# Altium schematic symbol library Cap.SchLib: 155 symbols (part 1 of 2)
Pins are listed as number, name and electrical type; pins without a type are passive.

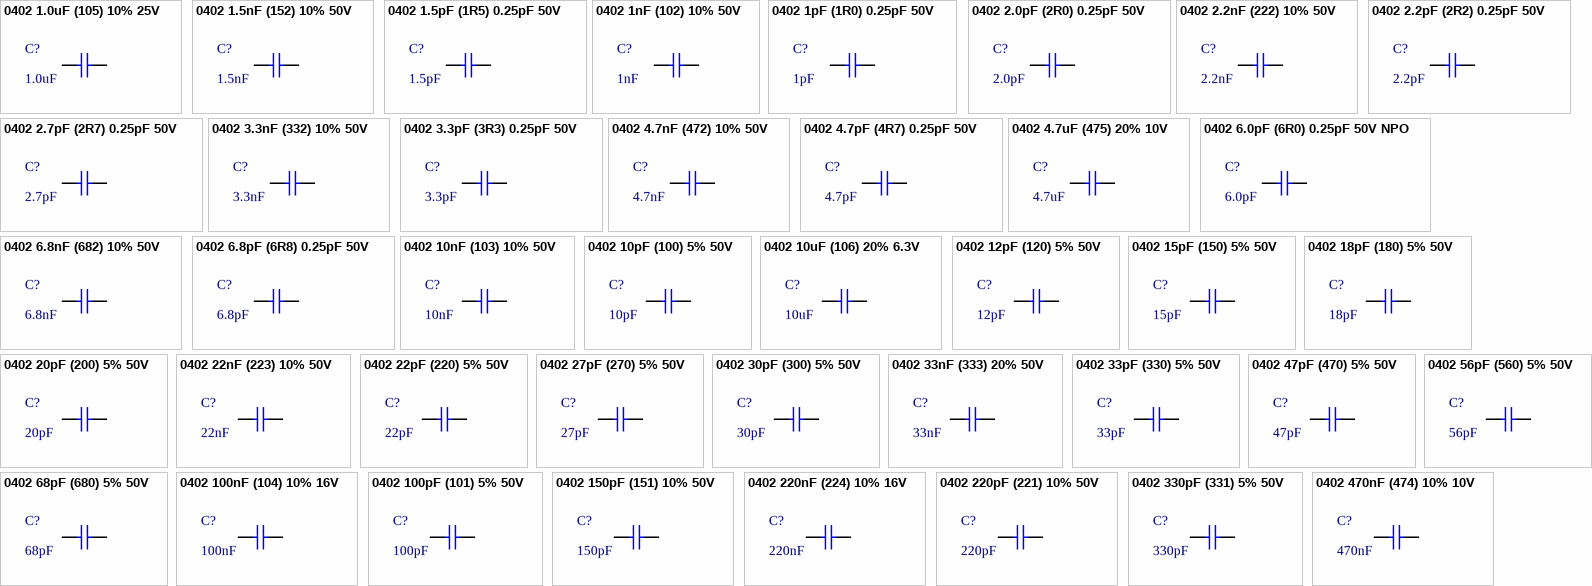
[diagram p0: symbols 0402 1.0uF (105) 10% 25V to 0402 470nF (474) 10% 10V]

## 0402 1.0uF (105) 10% 25V
designator C?, comment 1.0uF
Chip capacitor; Manufacturer: Samsung Electro-Mechanics; PartNumber: CL05A105KA5NQNC; Capacitance: 1uF; Tolerance: 10%; Voltage: 25V; ComponentLink1Description: Supplier link; ComponentLink1URL: http://www.szlcsc.com/product/details_53938.html; Package: 0402; Supplier: LC; SuppliersPartNumber: C52923
footprint 0402_C
pins: 1, 2

## 0402 1.5nF (152) 10% 50V
designator C?, comment 1.5nF
Chip capacitor; Manufacturer: Samsung Electro-Mechanics; PartNumber: CL05B152KB5NNNC; Tolerance: 10%; Voltage: 50V; ComponentLink1Description: Supplier link; ComponentLink1URL: http://www.szlcsc.com/product/details_24707.html; Package: 0402; Supplier: LC; SuppliersPartNumber: C23967; Capacitance: 1.5nF
footprint 0402_C
pins: 1, 2

## 0402 1.5pF (1R5) 0.25pF 50V
designator C?, comment 1.5pF
Chip capacitor; Manufacturer: Guangdong Fenghua Advanced Tech; PartNumber: 0402CG1R5C500NT; Tolerance: 0.25pF; Voltage: 50V; ComponentLink1Description: Supplier link; ComponentLink1URL: http://www.szlcsc.com/product/details_1904.html; Package: 0402; Supplier: LC; SuppliersPartNumber: C1552; Capacitance: 1.5pF
footprint 0402_C
pins: 1, 2

## 0402 1nF (102) 10% 50V
designator C?, comment 1nF
Chip capacitor; Manufacturer: Guangdong Fenghua Advanced Tech; PartNumber: 0402B102K500NT; Tolerance: 10%; Voltage: 50V; ComponentLink1Description: Supplier link; ComponentLink1URL: http://www.szlcsc.com/product/details_1875.html; Package: 0402; Supplier: LC; SuppliersPartNumber: C1523; Capacitance: 1nF
footprint 0402_C
pins: 1, 2

## 0402 1pF (1R0) 0.25pF 50V
designator C?, comment 1pF
Chip capacitor; Manufacturer: Guangdong Fenghua Advanced Tech; PartNumber: 0402CG1R0C500NT; Tolerance: 0.25pF; Voltage: 50V; ComponentLink1Description: Supplier link; ComponentLink1URL: http://www.szlcsc.com/product/details_1902.html; Package: 0402; Supplier: LC; SuppliersPartNumber: C1550; Capacitance: 1pF
footprint 0402_C
pins: 1, 2

## 0402 2.0pF (2R0) 0.25pF 50V
designator C?, comment 2.0pF
Chip capacitor; Manufacturer: Guangdong Fenghua Advanced Tech; PartNumber: 0402CG2R0C500NT; Capacitance: 2pF; Tolerance: 0.25pF; Voltage: 50V; ComponentLink1Description: Supplier link; ComponentLink1URL: http://www.szlcsc.com/product/details_1910.html; Package: 0402; Supplier: LC; SuppliersPartNumber: C1558
footprint 0402_C
pins: 1, 2

## 0402 2.2nF (222) 10% 50V
designator C?, comment 2.2nF
Chip capacitor; Manufacturer: Guangdong Fenghua Advanced Tech; PartNumber: 0402B222K500NT; Tolerance: 10%; Voltage: 50V; ComponentLink1Description: Supplier link; ComponentLink1URL: http://www.szlcsc.com/product/details_1883.html; Package: 0402; Supplier: LC; SuppliersPartNumber: C1531; Capacitance: 2.2nF
footprint 0402_C
pins: 1, 2

## 0402 2.2pF (2R2) 0.25pF 50V
designator C?, comment 2.2pF
Chip capacitor; Manufacturer: Guangdong Fenghua Advanced Tech; PartNumber: 0402CG2R2C500NT; Tolerance: 0.25pF; Voltage: 50V; ComponentLink1Description: Supplier link; ComponentLink1URL: http://www.szlcsc.com/product/details_1911.html; Package: 0402; Supplier: LC; SuppliersPartNumber: C1559; Capacitance: 2.2pF
footprint 0402_C
pins: 1, 2

## 0402 2.7pF (2R7) 0.25pF 50V
designator C?, comment 2.7pF
Chip capacitor; Manufacturer: Guangdong Fenghua Advanced Tech; PartNumber: 0402CG2R7C500NT; Tolerance: 0.25pF; Voltage: 50V; ComponentLink1Description: Supplier link; ComponentLink1URL: http://www.szlcsc.com/product/details_1913.html; Package: 0402; Supplier: LC; SuppliersPartNumber: C1561; Capacitance: 2.7pF
footprint 0402_C
pins: 1, 2

## 0402 3.3nF (332) 10% 50V
designator C?, comment 3.3nF
Chip capacitor; Manufacturer: Samsung Electro-Mechanics; PartNumber: CL05B332KB5NNNC; Tolerance: 10%; Voltage: 50V; ComponentLink1Description: Supplier link; ComponentLink1URL: http://www.szlcsc.com/product/details_27148.html; Package: 0402; Supplier: LC; SuppliersPartNumber: C26404; Capacitance: 3.3nF
footprint 0402_C
pins: 1, 2

## 0402 3.3pF (3R3) 0.25pF 50V
designator C?, comment 3.3pF
Chip capacitor; Manufacturer: Guangdong Fenghua Advanced Tech; PartNumber: 0402CG3R3C500NT; Tolerance: 0.25pF; Voltage: 50V; ComponentLink1Description: Supplier link; ComponentLink1URL: http://www.szlcsc.com/product/details_1917.html; Package: 0402; Supplier: LC; SuppliersPartNumber: C1565; Capacitance: 3.3pF
footprint 0402_C
pins: 1, 2

## 0402 4.7nF (472) 10% 50V
designator C?, comment 4.7nF
Chip capacitor; Manufacturer: Guangdong Fenghua Advanced Tech; PartNumber: 0402B472K500NT; Tolerance: 10%; Voltage: 50V; ComponentLink1Description: Supplier link; ComponentLink1URL: http://www.szlcsc.com/product/details_1890.html; Package: 0402; Supplier: LC; SuppliersPartNumber: C1538; Capacitance: 4.7nF
footprint 0402_C
pins: 1, 2

## 0402 4.7pF (4R7) 0.25pF 50V
designator C?, comment 4.7pF
Chip capacitor; Manufacturer: Guangdong Fenghua Advanced Tech; PartNumber: 0402CG4R7C500NT; Tolerance: 0.25pF; Voltage: 50V; ComponentLink1Description: Supplier link; ComponentLink1URL: http://www.szlcsc.com/product/details_1921.html; Package: 0402; Supplier: LC; SuppliersPartNumber: C1569; Capacitance: 4.7pF
footprint 0402_C
pins: 1, 2

## 0402 4.7uF (475) 20% 10V
designator C?, comment 4.7uF
Chip capacitor; Manufacturer: Samsung Electro-Mechanics; PartNumber: CL05A475MP5NRNC; Tolerance: 20%; Voltage: 10V; ComponentLink1Description: Supplier link; ComponentLink1URL: http://www.szlcsc.com/product/details_24469.html; Package: 0402; Supplier: LC; SuppliersPartNumber: C23733; Capacitance: 4.7uF
footprint 0402_C
pins: 1, 2

## 0402 6.0pF (6R0) 0.25pF 50V NPO
designator C?, comment 6.0pF
Chip capacitor; Manufacturer: Guangdong Fenghua Advanced Tech; PartNumber: 0402CG6R0C500NT; Capacitance: 6pF; Tolerance: 0.25pF; Voltage: 50V; ComponentLink1Description: Supplier link; ComponentLink1URL: http://www.szlcsc.com/product/details_31031.html; Package: 0402; Supplier: LC; SuppliersPartNumber: C30274
footprint 0402_C
pins: 1, 2

## 0402 6.8nF (682) 10% 50V
designator C?, comment 6.8nF
Chip capacitors; Manufacturer: Guangdong Fenghua Advanced Tech; PartNumber: 0402B682K500NT; Tolerance: 10%; Voltage: 50V; ComponentLink1Description: Supplier link; ComponentLink1URL: http://www.szlcsc.com/product/details_1894.html; Package: 0402; Supplier: LC; SuppliersPartNumber: C1542; Capacitance: 6.8nF
footprint 0402_C
pins: 1, 2

## 0402 6.8pF (6R8) 0.25pF 50V
designator C?, comment 6.8pF
Chip capacitors; Manufacturer: Guangdong Fenghua Advanced Tech; PartNumber: 0402CG6R8C500NT; Tolerance: 0.25pF; Voltage: 50V; ComponentLink1Description: Supplier link; ComponentLink1URL: http://www.szlcsc.com/product/details_1928.html; Package: 0402; Supplier: LC; SuppliersPartNumber: C1576; Capacitance: 6.8pF
footprint 0402_C
pins: 1, 2

## 0402 10nF (103) 10% 50V
designator C?, comment 10nF
Chip capacitors; Manufacturer: Samsung Electro-Mechanics; PartNumber: CL05B103KB5NNNC; Tolerance: 10%; Voltage: 50V; ComponentLink1Description: Supplier link; ComponentLink1URL: http://www.szlcsc.com/product/details_15869.html; Package: 0402; Supplier: LC; SuppliersPartNumber: C15195; Capacitance: 10nF
footprint 0402_C
pins: 1, 2

## 0402 10pF (100) 5% 50V
designator C?, comment 10pF
Chip capacitors; Manufacturer: Samsung Electro-Mechanics; PartNumber: CL05C100JB5NNNC; Tolerance: 5%; Voltage: 50V; ComponentLink1Description: Supplier link; ComponentLink1URL: http://www.szlcsc.com/product/details_33914.html; Package: 0402; Supplier: LC; SuppliersPartNumber: C32949; Capacitance: 10pF
footprint 0402_C
pins: 1, 2

## 0402 10uF (106) 20% 6.3V
designator C?, comment 10uF
Chip capacitors; Manufacturer: Samsung Electro-Mechanics; PartNumber: CL05A106MQ5NUNC; Tolerance: 20%; Voltage: 6.3V; ComponentLink1Description: Supplier link; ComponentLink1URL: http://www.szlcsc.com/product/details_16204.html; Package: 0402; Supplier: LC; SuppliersPartNumber: C15525; Capacitance: 10uF
footprint 0402_C
pins: 1, 2

## 0402 12pF (120) 5% 50V
designator C?, comment 12pF
Chip capacitors; Manufacturer: Guangdong Fenghua Advanced Tech; PartNumber: 0402CG120J500NT; Tolerance: 5%; Voltage: 50V; ComponentLink1Description: Supplier link; ComponentLink1URL: http://www.szlcsc.com/product/details_1899.html; Package: 0402; Supplier: LC; SuppliersPartNumber: C1547; Capacitance: 12pF
footprint 0402_C
pins: 1, 2

## 0402 15pF (150) 5% 50V
designator C?, comment 15pF
Chip capacitors; Manufacturer: Guangdong Fenghua Advanced Tech; PartNumber: 0402CG150J500NT; Tolerance: 5%; Voltage: 50V; ComponentLink1Description: Supplier link; ComponentLink1URL: http://www.szlcsc.com/product/details_1900.html; Package: 0402; Supplier: LC; SuppliersPartNumber: C1548; Capacitance: 15pF
footprint 0402_C
pins: 1, 2

## 0402 18pF (180) 5% 50V
designator C?, comment 18pF
Chip capacitors; Manufacturer: Guangdong Fenghua Advanced Tech; PartNumber: 0402CG180J500NT; Tolerance: 5%; Voltage: 50V; ComponentLink1Description: Supplier link; ComponentLink1URL: http://www.szlcsc.com/product/details_1901.html; Package: 0402; Supplier: LC; SuppliersPartNumber: C1549; Capacitance: 18pF
footprint 0402_C
pins: 1, 2

## 0402 20pF (200) 5% 50V
designator C?, comment 20pF
Chip capacitors; Manufacturer: Guangdong Fenghua Advanced Tech; PartNumber: 0402CG200J500NT; Tolerance: 5%; Voltage: 50V; ComponentLink1Description: Supplier link; ComponentLink1URL: http://www.szlcsc.com/product/details_1906.html; Package: 0402; Supplier: LC; SuppliersPartNumber: C1554; Capacitance: 20pF
footprint 0402_C
pins: 1, 2

## 0402 22nF (223) 10% 50V
designator C?, comment 22nF
Chip capacitors; Manufacturer: Guangdong Fenghua Advanced Tech; PartNumber: 0402B223K500NT; Tolerance: 10%; Voltage: 50V; ComponentLink1Description: Supplier link; ComponentLink1URL: http://www.szlcsc.com/product/details_1884.html; Package: 0402; Supplier: LC; SuppliersPartNumber: C1532; Capacitance: 22nF
footprint 0402_C
pins: 1, 2

## 0402 22pF (220) 5% 50V
designator C?, comment 22pF
Chip capacitors; Manufacturer: Guangdong Fenghua Advanced Tech; PartNumber: 0402CG220J500NT; Tolerance: 5%; Voltage: 50V; ComponentLink1Description: Supplier link; ComponentLink1URL: http://www.szlcsc.com/product/details_1907.html; Package: 0402; Supplier: LC; SuppliersPartNumber: C1555; Capacitance: 22pF
footprint 0402_C
pins: 1, 2

## 0402 27pF (270) 5% 50V
designator C?, comment 27pF
Chip capacitors; Manufacturer: Guangdong Fenghua Advanced Tech; PartNumber: 0402CG270J500NTN; Tolerance: 5%; Voltage: 50V; ComponentLink1Description: Supplier link; ComponentLink1URL: http://www.szlcsc.com/product/details_1909.html; Package: 0402; Supplier: LC; SuppliersPartNumber: C1557; Capacitance: 27pF
footprint 0402_C
pins: 1, 2

## 0402 30pF (300) 5% 50V
designator C?, comment 30pF
Chip capacitors; Manufacturer: Guangdong Fenghua Advanced Tech; PartNumber: 0402CG300J500NT; Tolerance: 5%; Voltage: 50V; ComponentLink1Description: Supplier link; ComponentLink1URL: http://www.szlcsc.com/product/details_1922.html; Package: 0402; Supplier: LC; SuppliersPartNumber: C1570; Capacitance: 30pF
footprint 0402_C
pins: 1, 2

## 0402 33nF (333) 20% 50V
designator C?, comment 33nF
Chip capacitors; Manufacturer: Guangdong Fenghua Advanced Tech; PartNumber: 0402F333M500NT; Tolerance: 20%; Voltage: 50V; ComponentLink1Description: Supplier link; ComponentLink1URL: http://www.szlcsc.com/product/details_1937.html; Package: 0402; Supplier: LC; SuppliersPartNumber: C1585; Capacitance: 33nF
footprint 0402_C
pins: 1, 2

## 0402 33pF (330) 5% 50V
designator C?, comment 33pF
Chip capacitors; Manufacturer: Guangdong Fenghua Advanced Tech; PartNumber: 0402CG330J500NT; Tolerance: 5%; Voltage: 50V; ComponentLink1Description: Supplier link; ComponentLink1URL: http://www.szlcsc.com/product/details_1914.html; Package: 0402; Supplier: LC; SuppliersPartNumber: C1562; Capacitance: 33pF
footprint 0402_C
pins: 1, 2

## 0402 47pF (470) 5% 50V
designator C?, comment 47pF
Chip capacitors; Manufacturer: Guangdong Fenghua Advanced Tech; PartNumber: 0402CG470J500NT; Tolerance: 5%; Voltage: 50V; ComponentLink1Description: Supplier link; ComponentLink1URL: http://www.szlcsc.com/product/details_1919.html; Package: 0402; Supplier: LC; SuppliersPartNumber: C1567; Capacitance: 47pF
footprint 0402_C
pins: 1, 2

## 0402 56pF (560) 5% 50V
designator C?, comment 56pF
Chip capacitors; Manufacturer: Guangdong Fenghua Advanced Tech; PartNumber: 0402CG560J500NT; Tolerance: 5%; Voltage: 50V; ComponentLink1Description: Supplier link; ComponentLink1URL: http://www.szlcsc.com/product/details_1924.html; Package: 0402; Supplier: LC; SuppliersPartNumber: C1572; Capacitance: 56pF
footprint 0402_C
pins: 1, 2

## 0402 68pF (680) 5% 50V
designator C?, comment 68pF
Chip capacitors; Manufacturer: Samsung Electro-Mechanics; PartNumber: CL05C680JB5NNNC; Tolerance: 5%; Voltage: 50V; ComponentLink1Description: Supplier link; ComponentLink1URL: http://www.szlcsc.com/product/details_15103.html; Package: 0402; Supplier: LC; SuppliersPartNumber: C14441; Capacitance: 68pF
footprint 0402_C
pins: 1, 2

## 0402 100nF (104) 10% 16V
designator C?, comment 100nF
Chip capacitors; Manufacturer: Samsung Electro-Mechanics; PartNumber: CL05B104KO5NNNC; Tolerance: 10%; Voltage: 16V; ComponentLink1Description: Supplier link; ComponentLink1URL: http://www.szlcsc.com/product/details_1877.html; Package: 0402; Supplier: LC; SuppliersPartNumber: C1525; Capacitance: 100nF
footprint 0402_C
pins: 1, 2

## 0402 100pF (101) 5% 50V
designator C?, comment 100pF
Chip capacitors; Manufacturer: Guangdong Fenghua Advanced Tech; PartNumber: 0402CG101J500NT; Tolerance: 5%; Voltage: 50V; ComponentLink1Description: Supplier link; ComponentLink1URL: http://www.szlcsc.com/product/details_1898.html; Package: 0402; Supplier: LC; SuppliersPartNumber: C1546; Capacitance: 100pF
footprint 0402_C
pins: 1, 2

## 0402 150pF (151) 10% 50V
designator C?, comment 150pF
Chip capacitors; Manufacturer: Guangdong Fenghua Advanced Tech; PartNumber: 0402B151K500NT; Tolerance: 10%; Voltage: 50V; ComponentLink1Description: Supplier link; ComponentLink1URL: http://www.szlcsc.com/product/details_1879.html; Package: 0402; Supplier: LC; SuppliersPartNumber: C1527; Capacitance: 150pF
footprint 0402_C
pins: 1, 2

## 0402 220nF (224) 10% 16V
designator C?, comment 220nF
Chip capacitors; Manufacturer: Samsung Electro-Mechanics; PartNumber: CL05B224KO5NNNC; Tolerance: 10%; Voltage: 16V; ComponentLink1Description: Supplier link; ComponentLink1URL: http://www.szlcsc.com/product/details_17456.html; Package: 0402; Supplier: LC; SuppliersPartNumber: C16772; Capacitance: 220nF
footprint 0402_C
pins: 1, 2

## 0402 220pF (221) 10% 50V
designator C?, comment 220pF
Chip capacitors; Manufacturer: Guangdong Fenghua Advanced Tech; PartNumber: 0402B221K500NT; Tolerance: 10%; Voltage: 50V; ComponentLink1Description: Supplier link; ComponentLink1URL: http://www.szlcsc.com/product/details_1882.html; Package: 0402; Supplier: LC; SuppliersPartNumber: C1530; Capacitance: 220pF
footprint 0402_C
pins: 1, 2

## 0402 330pF (331) 5% 50V
designator C?, comment 330pF
Chip capacitors; Manufacturer: Samsung Electro-Mechanics; PartNumber: CL05C331JB5NNNC; Tolerance: 5%; Voltage: 50V; ComponentLink1Description: Supplier link; ComponentLink1URL: http://www.szlcsc.com/product/details_14182.html; Package: 0402; Supplier: LC; SuppliersPartNumber: C13533; Capacitance: 330pF
footprint 0402_C
pins: 1, 2

## 0402 470nF (474) 10% 10V
designator C?, comment 470nF
Chip capacitors; Manufacturer: Samsung Electro-Mechanics; PartNumber: CL05A474KP5NNNC; Tolerance: 10%; Voltage: 10V; ComponentLink1Description: Supplier link; ComponentLink1URL: http://www.szlcsc.com/product/details_48344.html; Package: 0402; Supplier: LC; SuppliersPartNumber: C47339; Capacitance: 470nF
footprint 0402_C
pins: 1, 2

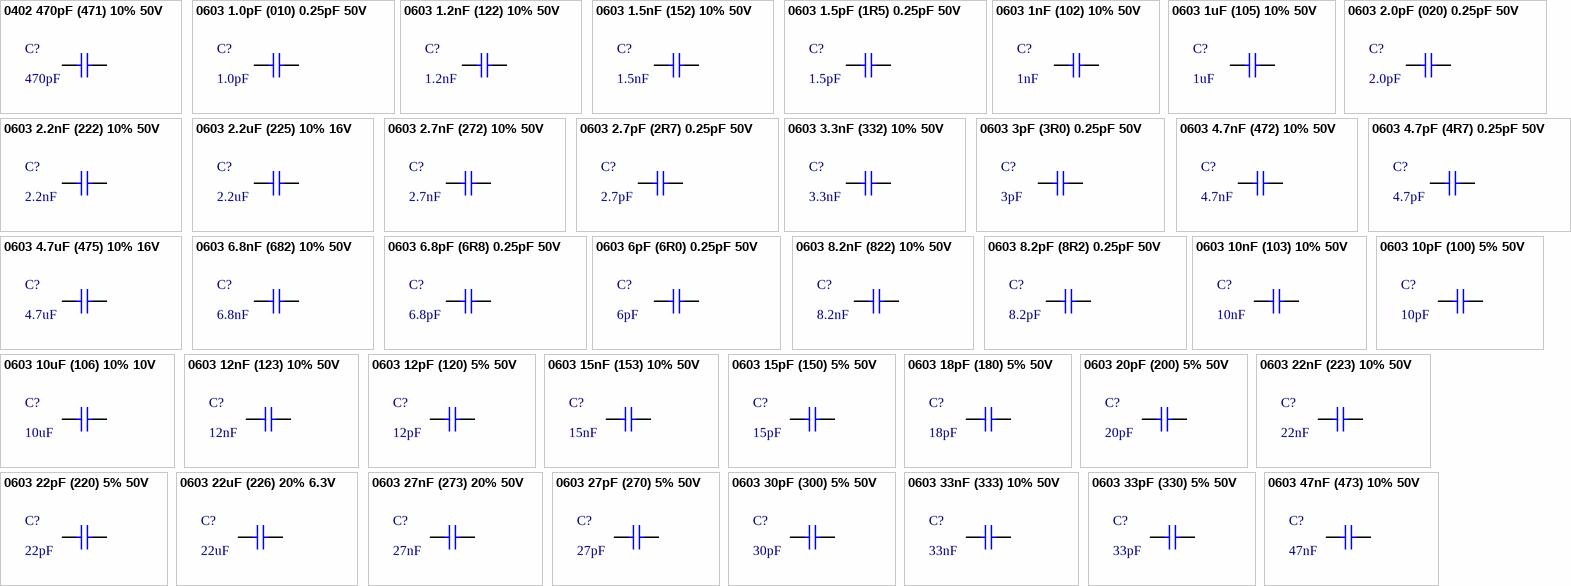
[diagram p1: symbols 0402 470pF (471) 10% 50V to 0603 47nF (473) 10% 50V]

## 0402 470pF (471) 10% 50V
designator C?, comment 470pF
Chip capacitors; Manufacturer: Guangdong Fenghua Advanced Tech; PartNumber: 0402B471K500NT; Tolerance: 10%; Voltage: 50V; ComponentLink1Description: Supplier link; ComponentLink1URL: http://www.szlcsc.com/product/details_1889.html; Package: 0402; Supplier: LC; SuppliersPartNumber: C1537; Capacitance: 470pF
footprint 0402_C
pins: 1, 2

## 0603 1.0pF (010) 0.25pF 50V
designator C?, comment 1.0pF
Chip capacitors; Manufacturer: Samsung Electro-Mechanics; PartNumber: CL10C010CB8NNNC; Capacitance: 1pF; Tolerance: 0.25pF; Voltage: 50V; ComponentLink1Description: Supplier link; ComponentLink1URL: http://www.szlcsc.com/product/details_24709.html; Package: 0603; Supplier: LC; SuppliersPartNumber: C23969
footprint 0603_C
pins: 1, 2

## 0603 1.2nF (122) 10% 50V
designator C?, comment 1.2nF
Chip capacitors; Manufacturer: Samsung Electro-Mechanics; PartNumber: CL10B122KB8NNNC; Tolerance: 10%; Voltage: 50V; ComponentLink1Description: Supplier link; ComponentLink1URL: http://www.szlcsc.com/product/details_31372.html; Package: 0603; Supplier: LC; SuppliersPartNumber: C30615; Capacitance: 1.2nF
footprint 0603_C
pins: 1, 2

## 0603 1.5nF (152) 10% 50V
designator C?, comment 1.5nF
Chip capacitors; Manufacturer: Guangdong Fenghua Advanced Tech; PartNumber: 0603B152K500NT; Tolerance: 10%; Voltage: 50V; ComponentLink1Description: Supplier link; ComponentLink1URL: http://www.szlcsc.com/product/details_1947.html; Package: 0603; Supplier: LC; SuppliersPartNumber: C1595; Capacitance: 1.5nF
footprint 0603_C
pins: 1, 2

## 0603 1.5pF (1R5) 0.25pF 50V
designator C?, comment 1.5pF
Chip capacitors; Manufacturer: Guangdong Fenghua Advanced Tech; PartNumber: 0603CG1R5C500NT; Tolerance: 0.25pF; Voltage: 50V; ComponentLink1Description: Supplier link; ComponentLink1URL: http://www.szlcsc.com/product/details_1991.html; Package: 0603; Supplier: LC; SuppliersPartNumber: C1639; Capacitance: 1.5pF
footprint 0603_C
pins: 1, 2

## 0603 1nF (102) 10% 50V
designator C?, comment 1nF
Chip capacitors; Manufacturer: Samsung Electro-Mechanics; PartNumber: CL10B102KB8NNNC; Tolerance: 10%; Voltage: 50V; ComponentLink1Description: Supplier link; ComponentLink1URL: http://www.szlcsc.com/product/details_1940.html; Package: 0603; Supplier: LC; SuppliersPartNumber: C1588; Capacitance: 1nF
footprint 0603_C
pins: 1, 2

## 0603 1uF (105) 10% 50V
designator C?, comment 1uF
Chip capacitors; Manufacturer: Samsung Electro-Mechanics; PartNumber: CL10A105KB8NNNC; Tolerance: 10%; Voltage: 50V; ComponentLink1Description: Supplier link; ComponentLink1URL: http://www.szlcsc.com/product/details_16531.html; Package: 0603; Supplier: LC; SuppliersPartNumber: C15849; Capacitance: 1uF
footprint 0603_C
pins: 1, 2

## 0603 2.0pF (020) 0.25pF 50V
designator C?, comment 2.0pF
Chip capacitors; Manufacturer: Samsung Electro-Mechanics; PartNumber: CL10C020CB8NNNC; Capacitance: 2pF; Tolerance: 0.25pF; Voltage: 50V; ComponentLink1Description: Supplier link; ComponentLink1URL: http://www.szlcsc.com/product/details_22617.html; Package: 0603; Supplier: LC; SuppliersPartNumber: C21895
footprint 0603_C
pins: 1, 2

## 0603 2.2nF (222) 10% 50V
designator C?, comment 2.2nF
Chip capacitors; Manufacturer: Guangdong Fenghua Advanced Tech; PartNumber: 0603B222K500NT; Tolerance: 10%; Voltage: 50V; ComponentLink1Description: Supplier link; ComponentLink1URL: http://www.szlcsc.com/product/details_1956.html; Package: 0603; Supplier: LC; SuppliersPartNumber: C1604; Capacitance: 2.2nF
footprint 0603_C
pins: 1, 2

## 0603 2.2uF (225) 10% 16V
designator C?, comment 2.2uF
Chip capacitors; Manufacturer: Samsung Electro-Mechanics; PartNumber: CL10A225KO8NNNC; Tolerance: 10%; Voltage: 16V; ComponentLink1Description: Supplier link; ComponentLink1URL: http://www.szlcsc.com/product/details_24366.html; Package: 0603; Supplier: LC; SuppliersPartNumber: C23630; Capacitance: 2.2uF
footprint 0603_C
pins: 1, 2

## 0603 2.7nF (272) 10% 50V
designator C?, comment 2.7nF
Chip capacitors; Manufacturer: Guangdong Fenghua Advanced Tech; PartNumber: 0603B272K500NT; Tolerance: 10%; Voltage: 50V; ComponentLink1Description: Supplier link; ComponentLink1URL: http://www.szlcsc.com/product/details_1961.html; Package: 0603; Supplier: LC; SuppliersPartNumber: C1609; Capacitance: 2.7nF
footprint 0603_C
pins: 1, 2

## 0603 2.7pF (2R7) 0.25pF 50V
designator C?, comment 2.7pF
Chip capacitors; Manufacturer: Samsung Electro-Mechanics; PartNumber: CL10C2R7CB8NNNC; Tolerance: 0.25pF; Voltage: 50V; ComponentLink1Description: Supplier link; ComponentLink1URL: http://www.szlcsc.com/product/details_16831.html; Package: 0603; Supplier: LC; SuppliersPartNumber: C16149; Capacitance: 2.7pF
footprint 0603_C
pins: 1, 2

## 0603 3.3nF (332) 10% 50V
designator C?, comment 3.3nF
Chip capacitors; Manufacturer: Samsung Electro-Mechanics; PartNumber: CL10B332KB8NNNC; Tolerance: 10%; Voltage: 50V; ComponentLink1Description: Supplier link; ComponentLink1URL: http://www.szlcsc.com/product/details_1965.html; Package: 0603; Supplier: LC; SuppliersPartNumber: C1613; Capacitance: 3.3nF
footprint 0603_C
pins: 1, 2

## 0603 3pF (3R0) 0.25pF 50V
designator C?, comment 3pF
Chip capacitors; Manufacturer: Guangdong Fenghua Advanced Tech; PartNumber: 0603CG3R0C500NT; Tolerance: 0.25pF; Voltage: 50V; ComponentLink1Description: Supplier link; ComponentLink1URL: http://www.szlcsc.com/product/details_47222.html; Package: 0603; Supplier: LC; SuppliersPartNumber: C46219; Capacitance: 3pF
footprint 0603_C
pins: 1, 2

## 0603 4.7nF (472) 10% 50V
designator C?, comment 4.7nF
Chip capacitors; Manufacturer: Guangdong Fenghua Advanced Tech; PartNumber: 0603B472K500NT; Tolerance: 10%; Voltage: 50V; ComponentLink1Description: Supplier link; ComponentLink1URL: http://www.szlcsc.com/product/details_55004.html; Package: 0603; Supplier: LC; SuppliersPartNumber: C53987; Capacitance: 4.7nF
footprint 0603_C
pins: 1, 2

## 0603 4.7pF (4R7) 0.25pF 50V
designator C?, comment 4.7pF
Chip capacitors; Manufacturer: Guangdong Fenghua Advanced Tech; PartNumber: 0603CG4R7C500NT; Tolerance: 0.25pF; Voltage: 50V; ComponentLink1Description: Supplier link; ComponentLink1URL: http://www.szlcsc.com/product/details_2021.html; Package: 0603; Supplier: LC; SuppliersPartNumber: C1669; Capacitance: 4.7pF
footprint 0603_C
pins: 1, 2

## 0603 4.7uF (475) 10% 16V
designator C?, comment 4.7uF
Chip capacitors; Manufacturer: Samsung Electro-Mechanics; PartNumber: CL10A475KO8NNNC; Tolerance: 10%; Voltage: 16V; ComponentLink1Description: Supplier link; ComponentLink1URL: http://www.szlcsc.com/product/details_20375.html; Package: 0603; Supplier: LC; SuppliersPartNumber: C19666; Capacitance: 4.7uF
footprint 0603_C
pins: 1, 2

## 0603 6.8nF (682) 10% 50V
designator C?, comment 6.8nF
Chip capacitors; Manufacturer: Guangdong Fenghua Advanced Tech; PartNumber: 0603B682K500NT; Tolerance: 10%; Voltage: 50V; ComponentLink1Description: Supplier link; ComponentLink1URL: http://www.szlcsc.com/product/details_1983.html; Package: 0603; Supplier: LC; SuppliersPartNumber: C1631; Capacitance: 6.8nF
footprint 0603_C
pins: 1, 2

## 0603 6.8pF (6R8) 0.25pF 50V
designator C?, comment 6.8pF
Chip capacitors; Manufacturer: Guangdong Fenghua Advanced Tech; PartNumber: 0603CG6R8C500NT; Tolerance: 0.25pF; Voltage: 50V; ComponentLink1Description: Supplier link; ComponentLink1URL: http://www.szlcsc.com/product/details_2031.html; Package: 0603; Supplier: LC; SuppliersPartNumber: C1679; Capacitance: 6.8pF
footprint 0603_C
pins: 1, 2

## 0603 6pF (6R0) 0.25pF 50V
designator C?, comment 6pF
Chip capacitors; Manufacturer: Guangdong Fenghua Advanced Tech; PartNumber: 0603CG6R0C500NT; Tolerance: 0.25pF; Voltage: 50V; ComponentLink1Description: Supplier link; ComponentLink1URL: http://www.szlcsc.com/product/details_38453.html; Package: 0603; Supplier: LC; SuppliersPartNumber: C37474; Capacitance: 6pF
footprint 0603_C
pins: 1, 2

## 0603 8.2nF (822) 10% 50V
designator C?, comment 8.2nF
Chip capacitors; Manufacturer: Samsung Electro-Mechanics; PartNumber: CL10B822KB8NNNC; Tolerance: 10%; Voltage: 50V; ComponentLink1Description: Supplier link; ComponentLink1URL: http://www.szlcsc.com/product/details_28670.html; Package: 0603; Supplier: LC; SuppliersPartNumber: C27920; Capacitance: 8.2nF
footprint 0603_C
pins: 1, 2

## 0603 8.2pF (8R2) 0.25pF 50V
designator C?, comment 8.2pF
Chip capacitors; Manufacturer: Guangdong Fenghua Advanced Tech; PartNumber: 0603CG8R2C500NT; Tolerance: 0.25pF; Voltage: 50V; ComponentLink1Description: Supplier link; ComponentLink1URL: http://www.szlcsc.com/product/details_2037.html; Package: 0603; Supplier: LC; SuppliersPartNumber: C1685; Capacitance: 8.2pF
footprint 0603_C
pins: 1, 2

## 0603 10nF (103) 10% 50V
designator C?, comment 10nF
Chip capacitors; Manufacturer: Guangdong Fenghua Advanced Tech; PartNumber: 0603B103K500NT; Tolerance: 10%; Voltage: 50V; ComponentLink1Description: Supplier link; ComponentLink1URL: http://www.szlcsc.com/product/details_58143.html; Package: 0603; Supplier: LC; SuppliersPartNumber: C57112; Capacitance: 10nF
footprint 0603_C
pins: 1, 2

## 0603 10pF (100) 5% 50V
designator C?, comment 10pF
Chip capacitors; Manufacturer: Samsung Electro-Mechanics; PartNumber: CL10C100JB8NNNC; Tolerance: 5%; Voltage: 50V; ComponentLink1Description: Supplier link; ComponentLink1URL: http://www.szlcsc.com/product/details_1986.html; Package: 0603; Supplier: LC; SuppliersPartNumber: C1634; Capacitance: 10pF
footprint 0603_C
pins: 1, 2

## 0603 10uF (106) 10% 10V
designator C?, comment 10uF
Chip capacitors; Manufacturer: Samsung Electro-Mechanics; PartNumber: CL10A106KP8NNNC; Tolerance: 10%; Voltage: 10V; ComponentLink1Description: Supplier link; ComponentLink1URL: http://www.szlcsc.com/product/details_20411.html; Package: 0603; Supplier: LC; SuppliersPartNumber: C19702; Capacitance: 10uF
footprint 0603_C
pins: 1, 2

## 0603 12nF (123) 10% 50V
designator C?, comment 12nF
Chip capacitors; Manufacturer: Guangdong Fenghua Advanced Tech; PartNumber: 0603B123K500NT; Tolerance: 10%; Voltage: 50V; ComponentLink1Description: Supplier link; ComponentLink1URL: http://www.szlcsc.com/product/details_1945.html; Package: 0603; Supplier: LC; SuppliersPartNumber: C1593; Capacitance: 12nF
footprint 0603_C
pins: 1, 2

## 0603 12pF (120) 5% 50V
designator C?, comment 12pF
Chip capacitors; Manufacturer: Samsung Electro-Mechanics; PartNumber: CL10C120JB8NNNC; Tolerance: 5%; Voltage: 50V; ComponentLink1Description: Supplier link; ComponentLink1URL: http://www.szlcsc.com/product/details_39506.html; Package: 0603; Supplier: LC; SuppliersPartNumber: C38523; Capacitance: 12pF
footprint 0603_C
pins: 1, 2

## 0603 15nF (153) 10% 50V
designator C?, comment 15nF
Chip capacitors; Manufacturer: Guangdong Fenghua Advanced Tech; PartNumber: 0603B153K500NT; Tolerance: 10%; Voltage: 50V; ComponentLink1Description: Supplier link; ComponentLink1URL: http://www.szlcsc.com/product/details_1948.html; Package: 0603; Supplier: LC; SuppliersPartNumber: C1596; Capacitance: 15nF
footprint 0603_C
pins: 1, 2

## 0603 15pF (150) 5% 50V
designator C?, comment 15pF
Chip capacitors; Manufacturer: Samsung Electro-Mechanics; PartNumber: CL10C150JB8NNNC; Tolerance: 5%; Voltage: 50V; ComponentLink1Description: Supplier link; ComponentLink1URL: http://www.szlcsc.com/product/details_1996.html; Package: 0603; Supplier: LC; SuppliersPartNumber: C1644; Capacitance: 15pF
footprint 0603_C
pins: 1, 2

## 0603 18pF (180) 5% 50V
designator C?, comment 18pF
Chip capacitors; Manufacturer: Samsung Electro-Mechanics; PartNumber: CL10C180JB8NNNC; Tolerance: 5%; Voltage: 50V; ComponentLink1Description: Supplier link; ComponentLink1URL: http://www.szlcsc.com/product/details_1999.html; Package: 0603; Supplier: LC; SuppliersPartNumber: C1647; Capacitance: 18pF
footprint 0603_C
pins: 1, 2

## 0603 20pF (200) 5% 50V
designator C?, comment 20pF
Chip capacitors; Manufacturer: Samsung Electro-Mechanics; PartNumber: CL10C200JB8NNNC; Tolerance: 5%; Voltage: 50V; ComponentLink1Description: Supplier link; ComponentLink1URL: http://www.szlcsc.com/product/details_2000.html; Package: 0603; Supplier: LC; SuppliersPartNumber: C1648; Capacitance: 20pF
footprint 0603_C
pins: 1, 2

## 0603 22nF (223) 10% 50V
designator C?, comment 22nF
Chip capacitors; Manufacturer: Samsung Electro-Mechanics; PartNumber: CL10B223KB8NNNC; Tolerance: 10%; Voltage: 50V; ComponentLink1Description: Supplier link; ComponentLink1URL: http://www.szlcsc.com/product/details_21834.html; Package: 0603; Supplier: LC; SuppliersPartNumber: C21122; Capacitance: 22nF
footprint 0603_C
pins: 1, 2

## 0603 22pF (220) 5% 50V
designator C?, comment 22pF
Chip capacitors; Manufacturer: Samsung Electro-Mechanics; PartNumber: CL10C220JB8NNNC; Tolerance: 5%; Voltage: 50V; ComponentLink1Description: Supplier link; ComponentLink1URL: http://www.szlcsc.com/product/details_2005.html; Package: 0603; Supplier: LC; SuppliersPartNumber: C1653; Capacitance: 22pF
footprint 0603_C
pins: 1, 2

## 0603 22uF (226) 20% 6.3V
designator C?, comment 22uF
Chip capacitors; Manufacturer: Samsung Electro-Mechanics; PartNumber: CL10A226MQ8NRNC; Tolerance: 20%; Voltage: 6.3V; ComponentLink1Description: Supplier link; ComponentLink1URL: http://www.szlcsc.com/product/details_60514.html; Package: 0603; Supplier: LC; SuppliersPartNumber: C59461; Capacitance: 22uF
footprint 0603_C
pins: 1, 2

## 0603 27nF (273) 20% 50V
designator C?, comment 27nF
Chip capacitors; Manufacturer: Guangdong Fenghua Advanced Tech; PartNumber: 0603F273M500NT; Tolerance: 20%; Voltage: 50V; ComponentLink1Description: Supplier link; ComponentLink1URL: http://www.szlcsc.com/product/details_2052.html; Package: 0603; Supplier: LC; SuppliersPartNumber: C1700; Capacitance: 27nF
footprint 0603_C
pins: 1, 2

## 0603 27pF (270) 5% 50V
designator C?, comment 27pF
Chip capacitors; Manufacturer: Samsung Electro-Mechanics; PartNumber: CL10C270JB8NNNC; Tolerance: 5%; Voltage: 50V; ComponentLink1Description: Supplier link; ComponentLink1URL: http://www.szlcsc.com/product/details_2008.html; Package: 0603; Supplier: LC; SuppliersPartNumber: C1656; Capacitance: 27pF
footprint 0603_C
pins: 1, 2

## 0603 30pF (300) 5% 50V
designator C?, comment 30pF
Chip capacitors; Manufacturer: Samsung Electro-Mechanics; PartNumber: CL10C300JB8NNNC; Tolerance: 5%; Voltage: 50V; ComponentLink1Description: Supplier link; ComponentLink1URL: http://www.szlcsc.com/product/details_23122.html; Package: 0603; Supplier: LC; SuppliersPartNumber: C22397; Capacitance: 30pF
footprint 0603_C
pins: 1, 2

## 0603 33nF (333) 10% 50V
designator C?, comment 33nF
Chip capacitors; Manufacturer: Samsung Electro-Mechanics; PartNumber: CL10B333KB8NNNC; Tolerance: 10%; Voltage: 50V; ComponentLink1Description: Supplier link; ComponentLink1URL: http://www.szlcsc.com/product/details_21829.html; Package: 0603; Supplier: LC; SuppliersPartNumber: C21117; Capacitance: 33nF
footprint 0603_C
pins: 1, 2

## 0603 33pF (330) 5% 50V
designator C?, comment 33pF
Chip capacitors; Manufacturer: Samsung Electro-Mechanics; PartNumber: CL10C330JB8NNNC; Tolerance: 5%; Voltage: 50V; ComponentLink1Description: Supplier link; ComponentLink1URL: http://www.szlcsc.com/product/details_2015.html; Package: 0603; Supplier: LC; SuppliersPartNumber: C1663; Capacitance: 33pF
footprint 0603_C
pins: 1, 2

## 0603 47nF (473) 10% 50V
designator C?, comment 47nF
Chip capacitors; Manufacturer: Samsung Electro-Mechanics; PartNumber: CL10B473KB8NNNC; Tolerance: 10%; Voltage: 50V; ComponentLink1Description: Supplier link; ComponentLink1URL: http://www.szlcsc.com/product/details_1974.html; Package: 0603; Supplier: LC; SuppliersPartNumber: C1622; Capacitance: 47nF
footprint 0603_C
pins: 1, 2

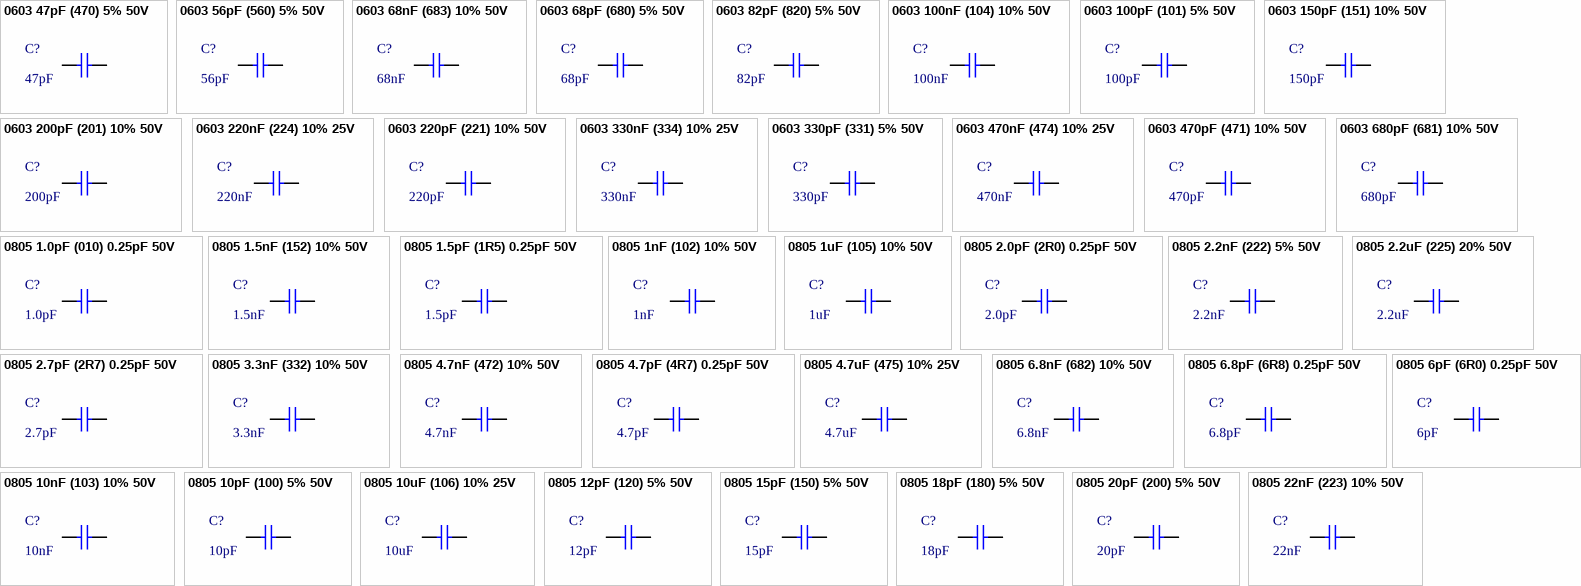
[diagram p2: symbols 0603 47pF (470) 5% 50V to 0805 22nF (223) 10% 50V]

## 0603 47pF (470) 5% 50V
designator C?, comment 47pF
Chip capacitors; Manufacturer: Samsung Electro-Mechanics; PartNumber: CL10C470JB8NNNC; Tolerance: 5%; Voltage: 50V; ComponentLink1Description: Supplier link; ComponentLink1URL: http://www.szlcsc.com/product/details_2023.html; Package: 0603; Supplier: LC; SuppliersPartNumber: C1671; Capacitance: 47pF
footprint 0603_C
pins: 1, 2

## 0603 56pF (560) 5% 50V
designator C?, comment 56pF
Chip capacitors; Manufacturer: Samsung Electro-Mechanics; PartNumber: CL10C560JB8NNNC; Tolerance: 5%; Voltage: 50V; ComponentLink1Description: Supplier link; ComponentLink1URL: http://www.szlcsc.com/product/details_40131.html; Package: 0603; Supplier: LC; SuppliersPartNumber: C39148; Capacitance: 56pF
footprint 0603_C
pins: 1, 2

## 0603 68nF (683) 10% 50V
designator C?, comment 68nF
Chip capacitors; Manufacturer: Samsung Electro-Mechanics; PartNumber: CL10B683KB8NNNC; Tolerance: 10%; Voltage: 50V; ComponentLink1Description: Supplier link; ComponentLink1URL: http://www.szlcsc.com/product/details_32617.html; Package: 0603; Supplier: LC; SuppliersPartNumber: C31658; Capacitance: 68nF
footprint 0603_C
pins: 1, 2

## 0603 68pF (680) 5% 50V
designator C?, comment 68pF
Chip capacitors; Manufacturer: Samsung Electro-Mechanics; PartNumber: CL10C680JB8NNNC; Tolerance: 5%; Voltage: 50V; ComponentLink1Description: Supplier link; ComponentLink1URL: http://www.szlcsc.com/product/details_29012.html; Package: 0603; Supplier: LC; SuppliersPartNumber: C28262; Capacitance: 68pF
footprint 0603_C
pins: 1, 2

## 0603 82pF (820) 5% 50V
designator C?, comment 82pF
Chip capacitors; Manufacturer: Guangdong Fenghua Advanced Tech; PartNumber: 0603CG820J500NT; Tolerance: 5%; Voltage: 50V; ComponentLink1Description: Supplier link; ComponentLink1URL: http://www.szlcsc.com/product/details_2035.html; Package: 0603; Supplier: LC; SuppliersPartNumber: C1683; Capacitance: 82pF
footprint 0603_C
pins: 1, 2

## 0603 100nF (104) 10% 50V
designator C?, comment 100nF
Chip capacitors; Manufacturer: YAGEO; PartNumber: CC0603KRX7R9BB104; Tolerance: 10%; Voltage: 50V; ComponentLink1Description: Supplier link; ComponentLink1URL: http://www.szlcsc.com/product/details_15331.html; Package: 0603; Supplier: LC; SuppliersPartNumber: C14663; Capacitance: 100nF
footprint 0603_C
pins: 1, 2

## 0603 100pF (101) 5% 50V
designator C?, comment 100pF
Chip capacitors; Manufacturer: Samsung Electro-Mechanics; PartNumber: CL10C101JB8NNNC; Tolerance: 5%; Voltage: 50V; ComponentLink1Description: Supplier link; ComponentLink1URL: http://www.szlcsc.com/product/details_15530.html; Package: 0603; Supplier: LC; SuppliersPartNumber: C14858; Capacitance: 100pF
footprint 0603_C
pins: 1, 2

## 0603 150pF (151) 10% 50V
designator C?, comment 150pF
Chip capacitors; Manufacturer: Guangdong Fenghua Advanced Tech; PartNumber: 0603B151K500NT; Tolerance: 10%; Voltage: 50V; ComponentLink1Description: Supplier link; ComponentLink1URL: http://www.szlcsc.com/product/details_1946.html; Package: 0603; Supplier: LC; SuppliersPartNumber: C1594; Capacitance: 150pF
footprint 0603_C
pins: 1, 2

## 0603 200pF (201) 10% 50V
designator C?, comment 200pF
Chip capacitors; Manufacturer: Guangdong Fenghua Advanced Tech; PartNumber: 0603B201K500NT; Tolerance: 10%; Voltage: 50V; ComponentLink1Description: Supplier link; ComponentLink1URL: http://www.szlcsc.com/product/details_1952.html; Package: 0603; Supplier: LC; SuppliersPartNumber: C1600; Capacitance: 200pF
footprint 0603_C
pins: 1, 2

## 0603 220nF (224) 10% 25V
designator C?, comment 220nF
Chip capacitors; Manufacturer: Samsung Electro-Mechanics; PartNumber: CL10B224KA8NNNC; Tolerance: 10%; Voltage: 25V; ComponentLink1Description: Supplier link; ComponentLink1URL: http://www.szlcsc.com/product/details_21832.html; Package: 0603; Supplier: LC; SuppliersPartNumber: C21120; Capacitance: 220nF
footprint 0603_C
pins: 1, 2

## 0603 220pF (221) 10% 50V
designator C?, comment 220pF
Chip capacitors; Manufacturer: Samsung Electro-Mechanics; PartNumber: CL10B221KB8NNNC; Tolerance: 10%; Voltage: 50V; ComponentLink1Description: Supplier link; ComponentLink1URL: http://www.szlcsc.com/product/details_1955.html; Package: 0603; Supplier: LC; SuppliersPartNumber: C1603; Capacitance: 220pF
footprint 0603_C
pins: 1, 2

## 0603 330nF (334) 10% 25V
designator C?, comment 330nF
Chip capacitors; Manufacturer: Guangdong Fenghua Advanced Tech; PartNumber: 0603B334K250NT; Tolerance: 10%; Voltage: 25V; ComponentLink1Description: Supplier link; ComponentLink1URL: http://www.szlcsc.com/product/details_1967.html; Package: 0603; Supplier: LC; SuppliersPartNumber: C1615; Capacitance: 330nF
footprint 0603_C
pins: 1, 2

## 0603 330pF (331) 5% 50V
designator C?, comment 330pF
Chip capacitors; Manufacturer: Samsung Electro-Mechanics; PartNumber: CL10C331JB8NNNC; Tolerance: 5%; Voltage: 50V; ComponentLink1Description: Supplier link; ComponentLink1URL: http://www.szlcsc.com/product/details_2016.html; Package: 0603; Supplier: LC; SuppliersPartNumber: C1664; Capacitance: 330pF
footprint 0603_C
pins: 1, 2

## 0603 470nF (474) 10% 25V
designator C?, comment 470nF
Chip capacitors; Manufacturer: Samsung Electro-Mechanics; PartNumber: CL10B474KA8NNNC; Tolerance: 10%; Voltage: 25V; ComponentLink1Description: Supplier link; ComponentLink1URL: http://www.szlcsc.com/product/details_1975.html; Package: 0603; Supplier: LC; SuppliersPartNumber: C1623; Capacitance: 470nF
footprint 0603_C
pins: 1, 2

## 0603 470pF (471) 10% 50V
designator C?, comment 470pF
Chip capacitors; Manufacturer: Guangdong Fenghua Advanced Tech; PartNumber: 0603B471K500NT; Tolerance: 10%; Voltage: 50V; ComponentLink1Description: Supplier link; ComponentLink1URL: http://www.szlcsc.com/product/details_1972.html; Package: 0603; Supplier: LC; SuppliersPartNumber: C1620; Capacitance: 470pF
footprint 0603_C
pins: 1, 2

## 0603 680pF (681) 10% 50V
designator C?, comment 680pF
Chip capacitors; Manufacturer: Guangdong Fenghua Advanced Tech; PartNumber: 0603B681K500NT; Tolerance: 10%; Voltage: 50V; ComponentLink1Description: Supplier link; ComponentLink1URL: http://www.szlcsc.com/product/details_1982.html; Package: 0603; Supplier: LC; SuppliersPartNumber: C1630; Capacitance: 680pF
footprint 0603_C
pins: 1, 2

## 0805 1.0pF (010) 0.25pF 50V
designator C?, comment 1.0pF
Chip capacitors; Manufacturer: Samsung Electro-Mechanics; PartNumber: CL21C010CBANNNC; Capacitance: 1pF; Tolerance: 0.25pF; Voltage: 50V; ComponentLink1Description: Supplier link; ComponentLink1URL: http://www.szlcsc.com/product/details_15644.html; Package: 0805; Supplier: LC; SuppliersPartNumber: C14971
footprint 0805_C
pins: 1, 2

## 0805 1.5nF (152) 10% 50V
designator C?, comment 1.5nF
Chip capacitors; Manufacturer: Guangdong Fenghua Advanced Tech; PartNumber: 0805B152K500NT; Tolerance: 10%; Voltage: 50V; ComponentLink1Description: Supplier link; ComponentLink1URL: http://www.szlcsc.com/product/details_2069.html; Package: 0805; Supplier: LC; SuppliersPartNumber: C1717; Capacitance: 1.5nF
footprint 0805_C
pins: 1, 2

## 0805 1.5pF (1R5) 0.25pF 50V
designator C?, comment 1.5pF
Chip capacitors; Manufacturer: Guangdong Fenghua Advanced Tech; PartNumber: 0805CG1R5C500NT; Tolerance: 0.25pF; Voltage: 50V; ComponentLink1Description: Supplier link; ComponentLink1URL: http://www.szlcsc.com/product/details_2140.html; Package: 0805; Supplier: LC; SuppliersPartNumber: C1788; Capacitance: 1.5pF
footprint 0805_C
pins: 1, 2

## 0805 1nF (102) 10% 50V
designator C?, comment 1nF
Chip capacitors; Manufacturer: Samsung Electro-Mechanics; PartNumber: CL21B102KBCNNNC; Tolerance: 10%; Voltage: 50V; ComponentLink1Description: Supplier link; ComponentLink1URL: http://www.szlcsc.com/product/details_52223.html; Package: 0805; Supplier: LC; SuppliersPartNumber: C46653; Capacitance: 1nF
footprint 0805_C
pins: 1, 2

## 0805 1uF (105) 10% 50V
designator C?, comment 1uF
Chip capacitors; Manufacturer: Samsung Electro-Mechanics; PartNumber: CL21B105KBFNNNE; Tolerance: 10%; Voltage: 50V; ComponentLink1Description: Supplier link; ComponentLink1URL: http://www.szlcsc.com/product/details_29074.html; Package: 0805; Supplier: LC; SuppliersPartNumber: C28323; Capacitance: 1uF
footprint 0805_C
pins: 1, 2

## 0805 2.0pF (2R0) 0.25pF 50V
designator C?, comment 2.0pF
Chip capacitors; Manufacturer: Guangdong Fenghua Advanced Tech; PartNumber: 0805CG2R0C500NT; Capacitance: 2pF; Tolerance: 0.25pF; Voltage: 50V; ComponentLink1Description: Supplier link; ComponentLink1URL: http://www.szlcsc.com/product/details_2152.html; Package: 0805; Supplier: LC; SuppliersPartNumber: C1800
footprint 0805_C
pins: 1, 2

## 0805 2.2nF (222) 5% 50V
designator C?, comment 2.2nF
Chip capacitors; Manufacturer: Samsung Electro-Mechanics; PartNumber: CL21C222JBFNNNE; Tolerance: 5%; Voltage: 50V; ComponentLink1Description: Supplier link; ComponentLink1URL: http://www.szlcsc.com/product/details_29010.html; Package: 0805; Supplier: LC; SuppliersPartNumber: C28260; Capacitance: 2.2nF
footprint 0805_C
pins: 1, 2

## 0805 2.2uF (225) 20% 50V
designator C?, comment 2.2uF
Chip capacitors; Manufacturer: Guangdong Fenghua Advanced Tech; PartNumber: 0805F225M500NT; Tolerance: 20%; Voltage: 50V; ComponentLink1Description: Supplier link; ComponentLink1URL: http://www.szlcsc.com/product/details_50225.html; Package: 0805; Supplier: LC; SuppliersPartNumber: C49217; Capacitance: 2.2uF
footprint 0805_C
pins: 1, 2

## 0805 2.7pF (2R7) 0.25pF 50V
designator C?, comment 2.7pF
Chip capacitors; Manufacturer: Guangdong Fenghua Advanced Tech; PartNumber: 0805CG2R7C500NT; Tolerance: 0.25pF; Voltage: 50V; ComponentLink1Description: Supplier link; ComponentLink1URL: http://www.szlcsc.com/product/details_2155.html; Package: 0805; Supplier: LC; SuppliersPartNumber: C1803; Capacitance: 2.7pF
footprint 0805_C
pins: 1, 2

## 0805 3.3nF (332) 10% 50V
designator C?, comment 3.3nF
Chip capacitors; Manufacturer: Samsung Electro-Mechanics; PartNumber: CL21B332KBANNNC; Tolerance: 10%; Voltage: 50V; ComponentLink1Description: Supplier link; ComponentLink1URL: http://www.szlcsc.com/product/details_54191.html; Package: 0805; Supplier: LC; SuppliersPartNumber: C53175; Capacitance: 3.3nF
footprint 0805_C
pins: 1, 2

## 0805 4.7nF (472) 10% 50V
designator C?, comment 4.7nF
Chip capacitors; Manufacturer: Guangdong Fenghua Advanced Tech; PartNumber: 0805B472K500NT; Tolerance: 10%; Voltage: 50V; ComponentLink1Description: Supplier link; ComponentLink1URL: http://www.szlcsc.com/product/details_2096.html; Package: 0805; Supplier: LC; SuppliersPartNumber: C1744; Capacitance: 4.7nF
footprint 0805_C
pins: 1, 2

## 0805 4.7pF (4R7) 0.25pF 50V
designator C?, comment 4.7pF
Chip capacitors; Manufacturer: Guangdong Fenghua Advanced Tech; PartNumber: 0805CG4R7C500NT; Tolerance: 0.25pF; Voltage: 50V; ComponentLink1Description: Supplier link; ComponentLink1URL: http://www.szlcsc.com/product/details_2172.html; Package: 0805; Supplier: LC; SuppliersPartNumber: C1820; Capacitance: 4.7pF
footprint 0805_C
pins: 1, 2

## 0805 4.7uF (475) 10% 25V
designator C?, comment 4.7uF
Chip capacitors; Manufacturer: Samsung Electro-Mechanics; PartNumber: CL21A475KAQNNNE; Tolerance: 10%; Voltage: 25V; ComponentLink1Description: Supplier link; ComponentLink1URL: http://www.szlcsc.com/product/details_2131.html; Package: 0805; Supplier: LC; SuppliersPartNumber: C1779; Capacitance: 4.7uF
footprint 0805_C
pins: 1, 2

## 0805 6.8nF (682) 10% 50V
designator C?, comment 6.8nF
Chip capacitors; Manufacturer: Guangdong Fenghua Advanced Tech; PartNumber: 0805B682K500NT; Tolerance: 10%; Voltage: 50V; ComponentLink1Description: Supplier link; ComponentLink1URL: http://www.szlcsc.com/product/details_2107.html; Package: 0805; Supplier: LC; SuppliersPartNumber: C1755; Capacitance: 6.8nF
footprint 0805_C
pins: 1, 2

## 0805 6.8pF (6R8) 0.25pF 50V
designator C?, comment 6.8pF
Chip capacitors; Manufacturer: Guangdong Fenghua Advanced Tech; PartNumber: 0805CG6R8C500NT; Tolerance: 0.25pF; Voltage: 50V; ComponentLink1Description: Supplier link; ComponentLink1URL: http://www.szlcsc.com/product/details_2184.html; Package: 0805; Supplier: LC; SuppliersPartNumber: C1832; Capacitance: 6.8pF
footprint 0805_C
pins: 1, 2

## 0805 6pF (6R0) 0.25pF 50V
designator C?, comment 6pF
Chip capacitors; Manufacturer: Guangdong Fenghua Advanced Tech; PartNumber: 0805CG6R0C500N; Tolerance: 0.25pF; Voltage: 50V; ComponentLink1Description: Supplier link; ComponentLink1URL: http://www.szlcsc.com/product/details_68656.html; Package: 0805; Supplier: LC; SuppliersPartNumber: C67560; Capacitance: 6pF
footprint 0805_C
pins: 1, 2

## 0805 10nF (103) 10% 50V
designator C?, comment 10nF
Chip capacitors; Manufacturer: Samsung Electro-Mechanics; PartNumber: CL21B103KBANNNC; Tolerance: 10%; Voltage: 50V; ComponentLink1Description: Supplier link; ComponentLink1URL: http://www.szlcsc.com/product/details_2062.html; Package: 0805; Supplier: LC; SuppliersPartNumber: C1710; Capacitance: 10nF
footprint 0805_C
pins: 1, 2

## 0805 10pF (100) 5% 50V
designator C?, comment 10pF
Chip capacitors; Manufacturer: Samsung Electro-Mechanics; PartNumber: CL21C100JBANNNC; Tolerance: 5%; Voltage: 50V; ComponentLink1Description: Supplier link; ComponentLink1URL: http://www.szlcsc.com/product/details_2137.html; Package: 0805; Supplier: LC; SuppliersPartNumber: C1785; Capacitance: 10pF
footprint 0805_C
pins: 1, 2

## 0805 10uF (106) 10% 25V
designator C?, comment 10uF
Chip capacitors; Manufacturer: Samsung Electro-Mechanics; PartNumber: CL21A106KAYNNNE; Tolerance: 10%; Voltage: 25V; ComponentLink1Description: Supplier link; ComponentLink1URL: http://www.szlcsc.com/product/details_16532.html; Package: 0805; Supplier: LC; SuppliersPartNumber: C15850; Capacitance: 10uF
footprint 0805_C
pins: 1, 2

## 0805 12pF (120) 5% 50V
designator C?, comment 12pF
Chip capacitors; Manufacturer: Guangdong Fenghua Advanced Tech; PartNumber: 0805CG120J500NT; Tolerance: 5%; Voltage: 50V; ComponentLink1Description: Supplier link; ComponentLink1URL: http://www.szlcsc.com/product/details_2144.html; Package: 0805; Supplier: LC; SuppliersPartNumber: C1792; Capacitance: 12pF
footprint 0805_C
pins: 1, 2

## 0805 15pF (150) 5% 50V
designator C?, comment 15pF
Chip capacitors; Manufacturer: Samsung Electro-Mechanics; PartNumber: CL21C150JBANNNC; Tolerance: 5%; Voltage: 50V; ComponentLink1Description: Supplier link; ComponentLink1URL: http://www.szlcsc.com/product/details_2146.html; Package: 0805; Supplier: LC; SuppliersPartNumber: C1794; Capacitance: 15pF
footprint 0805_C
pins: 1, 2

## 0805 18pF (180) 5% 50V
designator C?, comment 18pF
Chip capacitors; Manufacturer: Guangdong Fenghua Advanced Tech; PartNumber: 0805CG180J500NT; Tolerance: 5%; Voltage: 50V; ComponentLink1Description: Supplier link; ComponentLink1URL: http://www.szlcsc.com/product/details_2149.html; Package: 0805; Supplier: LC; SuppliersPartNumber: C1797; Capacitance: 18pF
footprint 0805_C
pins: 1, 2

## 0805 20pF (200) 5% 50V
designator C?, comment 20pF
Chip capacitors; Manufacturer: Samsung Electro-Mechanics; PartNumber: CL21C200JBANNNC; Tolerance: 5%; Voltage: 50V; ComponentLink1Description: Supplier link; ComponentLink1URL: http://www.szlcsc.com/product/details_2150.html; Package: 0805; Supplier: LC; SuppliersPartNumber: C1798; Capacitance: 20pF
footprint 0805_C
pins: 1, 2

## 0805 22nF (223) 10% 50V
designator C?, comment 22nF
Chip capacitors; Manufacturer: Samsung Electro-Mechanics; PartNumber: CL21B223KBANNNC; Tolerance: 10%; Voltage: 50V; ComponentLink1Description: Supplier link; ComponentLink1URL: http://www.szlcsc.com/product/details_2081.html; Package: 0805; Supplier: LC; SuppliersPartNumber: C1729; Capacitance: 22nF
footprint 0805_C
pins: 1, 2

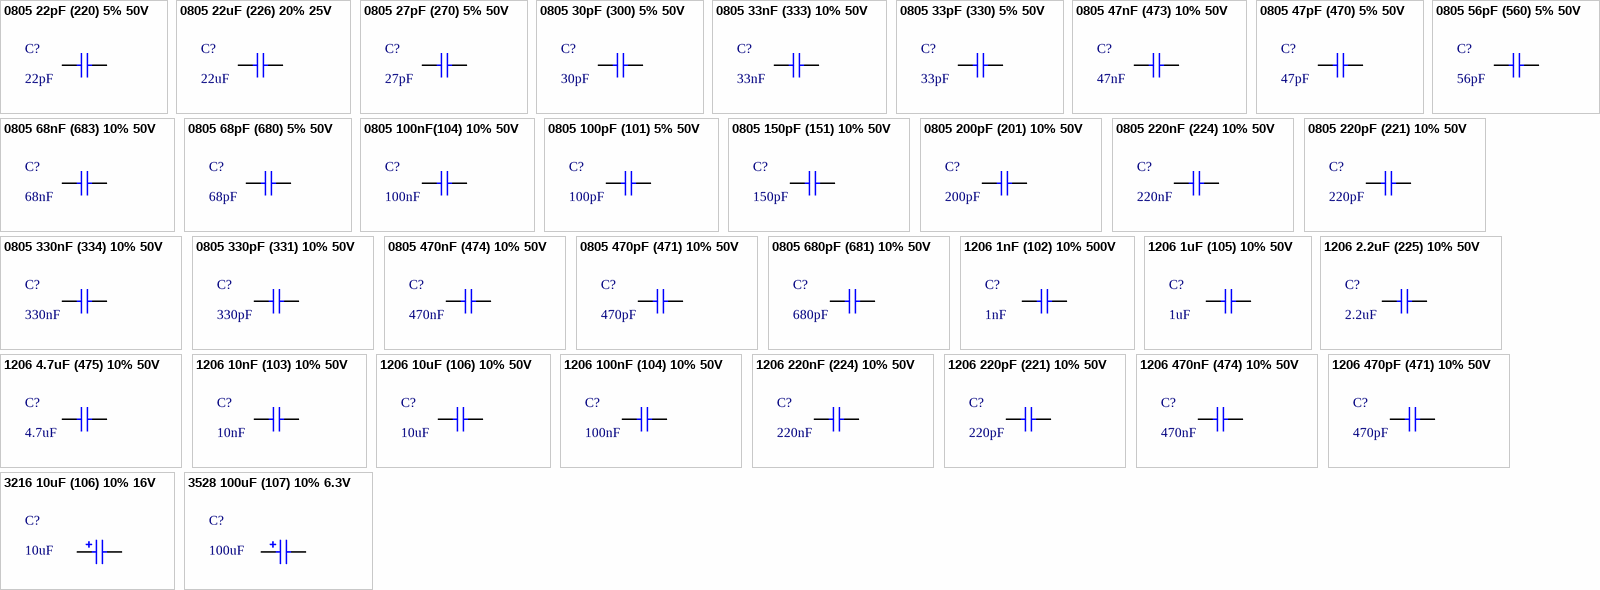
[diagram p3: symbols 0805 22pF (220) 5% 50V to 3528 100uF (107) 10% 6.3V]

## 0805 22pF (220) 5% 50V
designator C?, comment 22pF
Chip capacitors; Manufacturer: Samsung Electro-Mechanics; PartNumber: CL21C220JBANNNC; Tolerance: 5%; Voltage: 50V; ComponentLink1Description: Supplier link; ComponentLink1URL: http://www.szlcsc.com/product/details_2156.html; Package: 0805; Supplier: LC; SuppliersPartNumber: C1804; Capacitance: 22pF
footprint 0805_C
pins: 1, 2

## 0805 22uF (226) 20% 25V
designator C?, comment 22uF
Chip capacitors; Manufacturer: Samsung Electro-Mechanics; PartNumber: CL21A226MAQNNNE; Tolerance: 20%; Voltage: 25V; ComponentLink1Description: Supplier link; ComponentLink1URL: http://www.szlcsc.com/product/details_46786.html; Package: 0805; Supplier: LC; SuppliersPartNumber: C45783; Capacitance: 22uF
footprint 0805_C
pins: 1, 2

## 0805 27pF (270) 5% 50V
designator C?, comment 27pF
Chip capacitors; Manufacturer: Samsung Electro-Mechanics; PartNumber: CL21C270JBANNNC; Tolerance: 5%; Voltage: 50V; ComponentLink1Description: Supplier link; ComponentLink1URL: http://www.szlcsc.com/product/details_8509.html; Package: 0805; Supplier: LC; SuppliersPartNumber: C8031; Capacitance: 27pF
footprint 0805_C
pins: 1, 2

## 0805 30pF (300) 5% 50V
designator C?, comment 30pF
Chip capacitors; Manufacturer: Samsung Electro-Mechanics; PartNumber: CL21C300JBANNNC; Tolerance: 5%; Voltage: 50V; ComponentLink1Description: Supplier link; ComponentLink1URL: http://www.szlcsc.com/product/details_2161.html; Package: 0805; Supplier: LC; SuppliersPartNumber: C1809; Capacitance: 30pF
footprint 0805_C
pins: 1, 2

## 0805 33nF (333) 10% 50V
designator C?, comment 33nF
Chip capacitors; Manufacturer: Guangdong Fenghua Advanced Tech; PartNumber: 0805B333K500NT; Tolerance: 10%; Voltage: 50V; ComponentLink1Description: Supplier link; ComponentLink1URL: http://www.szlcsc.com/product/details_2091.html; Package: 0805; Supplier: LC; SuppliersPartNumber: C1739; Capacitance: 33nF
footprint 0805_C
pins: 1, 2

## 0805 33pF (330) 5% 50V
designator C?, comment 33pF
Chip capacitors; Manufacturer: Samsung Electro-Mechanics; PartNumber: CL21C330JBANNNC; Tolerance: 5%; Voltage: 50V; ComponentLink1Description: Supplier link; ComponentLink1URL: http://www.szlcsc.com/product/details_2166.html; Package: 0805; Supplier: LC; SuppliersPartNumber: C1814; Capacitance: 33pF
footprint 0805_C
pins: 1, 2